# Altium integrated library interfaces.IntLib: 8 symbols
Pins are listed as number, name and electrical type; pins without a type are passive.

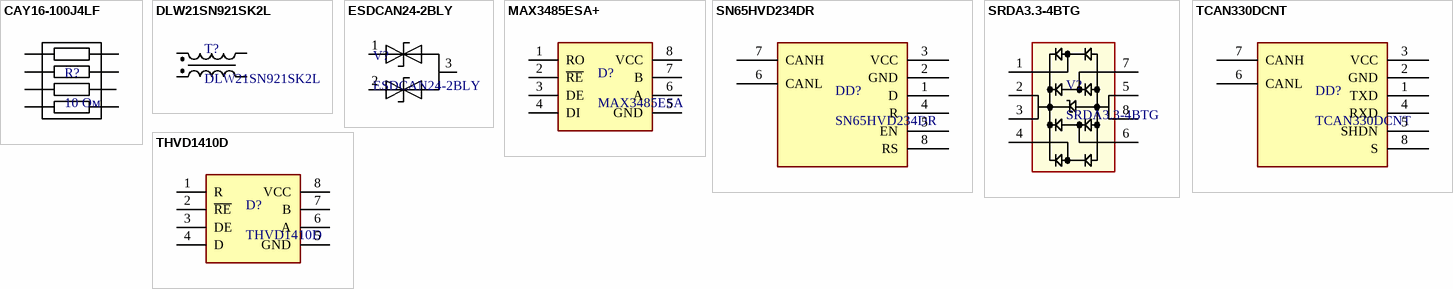
[diagram p0: symbols CAY16-100J4LF to THVD1410D]

## CAY16-100J4LF
designator R?, comment 10 Ом
Res Thick Film Array 10 Ohm 5% 0.25W(1/4W) ±200ppm/C ISOL 8-Pin 1206(4 X 0603) Convex SMD T/R; Manufacturer: Bourns; Manufacturer Part Number: CAY16-100J4LF; Supplier 1: https://www.chipdip.ru/product0/8030499465; Supplier Part Number: 2476971; RoHS: Yes; Category: Resistor Arrays; Stock: 8740; Pricing: 20=0,031, 100=0,025, 400=0,022, 1000=0,018, 2000=0,013 (GBP); ComponentLink1URL: https://datasheet.ciiva.com/11807/0900766b8064e462-11807072.pdf?src-supplier=Rs; ComponentLink1Description: https://datasheet.ciiva.com/11807/0900766b8064e462-11807072.pdf?src-supplier=Rs; ComponentLink2URL: https://datasheet.ciiva.com/30020/catcay-30020699.pdf?src-supplier=Avnet; ComponentLink2Description: https://datasheet.ciiva.com/30020/catcay-30020699.pdf?src-supplier=Avnet; ComponentLink3URL: https://datasheet.ciiva.com/1478/1849489-1478835.pdf?src-supplier=Element14; ComponentLink3Description: https://datasheet.ciiva.com/1478/1849489-1478835.pdf?src-supplier=Element14; ComponentLink4URL: https://datasheet.ciiva.com/18441/70155479-18441845.pdf?src-supplier=Allied+Electronics; ComponentLink4Description: https://datasheet.ciiva.com/18441/70155479-18441845.pdf?src-supplier=Allied+Electronics; ComponentLink5URL: https://datasheet.ciiva.com/30226/catcay-30226603.pdf?src-supplier=Onlinecomponents.com; ComponentLink5Description: https://datasheet.ciiva.com/30226/catcay-30226603.pdf?src-supplier=Onlinecomponents.com; ComponentLink6URL: https://datasheet.ciiva.com/1478/1849489-1478836.pdf?src-supplier=Element14; ComponentLink6Description: https://datasheet.ciiva.com/1478/1849489-1478836.pdf?src-supplier=Element14
footprint CAY16-100J4LF
pins: 1, 2, 3, 4, 5, 6, 7, 8

## DLW21SN921SK2L
designator T?
Ind Common Mode Choke Shielded Wirewound 920 Ohm 25% 100MHz 160mA 0805 Emboss T/R; Manufacturer: Murata; Impedance: 920R; Number of Lines: 2; Voltage Rating (DC): 50V; Supplier 1: https://www.chipdip.ru/product0/8004176754; Manufacturer Part Number: DLW21SN921SK2L; RoHS: Yes; Category: Common Mode Chokes; Stock 1: 6756; Pricing 1: 1=0,49, 10=0,358, 50=0,358, 100=0,258, 1000=0,22, 10000=0,186 (USD); Mount: Surface Mount; Min Operating Temperature: -40°C; Max Operating Temperature: 85°C; Packaging: Cut Tape; Max Current Rating: 160mA; Series: DLW21; Length: 2mm; Width: 1.2mm; RoHS Compliant: Yes; ComponentLink1URL: https://datasheet.octopart.com/DLW21SN921SK2L-Murata-datasheet-141273720.pdf?src-supplier=Element14; ComponentLink1Description: https://datasheet.octopart.com/DLW21SN921SK2L-Murata-datasheet-141273720.pdf?src-supplier=Element14; ComponentLink2URL: https://www.murata.com/en-us/products/productdata/8796756803614/EFLC0015.pdf?src-supplier=Digikey; ComponentLink2Description: https://www.murata.com/en-us/products/productdata/8796756803614/EFLC0015.pdf?src-supplier=Digikey; ComponentLink3URL: https://datasheet.octopart.com/DLW21SN921SK2L-Murata-datasheet-138902087.pdf?src-supplier=Future+Electronics; ComponentLink3Description: https://datasheet.octopart.com/DLW21SN921SK2L-Murata-datasheet-138902087.pdf?src-supplier=Future+Electronics; Supplier Part Number 1: 81-DLW21SN921SK2L
footprint DLW21S
pins: 1, 2, 3, 4

## ESDCAN24-2BLY
designator V?
TVS DIODE 24VWM 40VC SOT23-3L / ESD Suppressor Diode TVS Bi-Dir 24V Automotive 3-Pin SOT-23 T/R; Manufacturer: STMicroelectronics; Supplier 1: https://www.chipdip.ru/product/esdcan24-2bly-umw?from=suggest_product; Manufacturer Part Number: ESDCAN24-2BLY; RoHS: Yes; Category: TVS Diodes; Stock 1: 135000; Pricing 1: 3000=0,102, 6000=0,0993, 9000=0,064, 12000=0,0968, 15000=0,096, 30000=0,0613, 45000=0,0912, 60000=0,059 (USD); ComponentLink1URL: https://datasheet.ciiva.com/26935/getdatasheetpartid-779627-26935935.pdf?src-supplier=Verical; ComponentLink1Description: https://datasheet.ciiva.com/26935/getdatasheetpartid-779627-26935935.pdf?src-supplier=Verical; ComponentLink2URL: https://datasheet.ciiva.com/12070/dm00037599-100424-12070821.pdf?src-supplier=Mouser; ComponentLink2Description: https://datasheet.ciiva.com/12070/dm00037599-100424-12070821.pdf?src-supplier=Mouser; ComponentLink3URL: https://datasheet.ciiva.com/23803/dm00037599-23803632.pdf?src-supplier=Newark; ComponentLink3Description: https://datasheet.ciiva.com/23803/dm00037599-23803632.pdf?src-supplier=Newark; ComponentLink4URL: https://datasheet.ciiva.com/22685/1786030-22685811.pdf?src-supplier=Element14; ComponentLink4Description: https://datasheet.ciiva.com/22685/1786030-22685811.pdf?src-supplier=Element14; ComponentLink5URL: https://datasheet.ciiva.com/6574/dm00037599-6574397.pdf?src-supplier=Digikey; ComponentLink5Description: https://datasheet.ciiva.com/6574/dm00037599-6574397.pdf?src-supplier=Digikey; ComponentLink6URL: https://datasheet.ciiva.com/6574/dm00037599-6574398.pdf?src-supplier=Digikey; ComponentLink6Description: https://datasheet.ciiva.com/6574/dm00037599-6574398.pdf?src-supplier=Digikey; ComponentLink7URL: https://datasheet.ciiva.com/41443/001183991-da-01-en-tvs-diode-24-esdcan24-2bly-sot-23-3l-stm-41443402.pdf?src-supplier=Conrad; ComponentLink7Description: https://datasheet.ciiva.com/41443/001183991-da-01-en-tvs-diode-24-esdcan24-2bly-sot-23-3l-stm-41443402.pdf?src-supplier=Conrad; Supplier Part Number 1: 1027027
footprint SOT23-3L
pins: 1, 2, 3

## MAX3485ESA+
designator D?, comment MAX3485ESA
Single Transmitter/Receiver RS-422/RS-485 8-Pin SOIC N; Manufacturer: Maxim; Manufacturer Part Number: MAX3485ESA+; Supplier 1: https://www.chipdip.ru/product/max3485eesa-t-maxim; Supplier Part Number: 2518818; RoHS: Yes; Category: RS-232 / RS-422 / RS-485 Interface ICs; Stock: 707; Pricing: 1=6,17, 10=5,32, 25=4,97, 100=4,61, 300=4,41, 500=4,01, 1000=3,52 (EUR); ComponentLink1URL: https://datasheet.ciiva.com/14424/max3483-max3491-14424938.pdf?src-supplier=Avnet; ComponentLink1Description: https://datasheet.ciiva.com/14424/max3483-max3491-14424938.pdf?src-supplier=Avnet; ComponentLink2URL: https://datasheet.ciiva.com/1714/max3483-max3491-1714122.pdf?src-supplier=Digikey; ComponentLink2Description: https://datasheet.ciiva.com/1714/max3483-max3491-1714122.pdf?src-supplier=Digikey
footprint SOIC-8
pins: 1 RO, 2 ~{RE}, 3 DE, 4 DI, 5 GND, 6 A, 7 B, 8 VCC

## SN65HVD234DR
designator DD?
3.3 V CAN Transceiver with Sleep Mode 8-SOIC -40 to 125; Manufacturer: Texas Instruments; Manufacturer Lifecycle Status: ACTIVE; Data Rate: 1Mbps; Max Supply Voltage: 3.6V; Min Supply Voltage: 3V; Nominal Supply Current: 6mA; Number of Channels: 1; Operating Supply Voltage: 3.3V; Supplier: RS; Supplier Part Number: 2184572; Manufacturer Part Number: SN65HVD234DR; RoHS: Compliant; Category: CAN Transceivers; Stock: 1060; Pricing: 5=2,798, 25=2,658, 50=2,392, 125=2,152, 250=2,046 (GBP); Case/Package: SOIC; Height: 1.75mm; Lead Free: Lead Free; Length: 4.9mm; Lifecycle Status: Production; Max Operating Temperature: 125°C; Min Operating Temperature: -40°C; Number of Drivers: 1; Pins: 8; Number of Receive Buffers: 1; Number of Receivers: 1; Number of Transceivers: 1; Number of Transmit Buffers: 1; Packaging: Cut Tape; Radiation Hardening: No; REACH SVHC: No; Schedule B: 8542390000, 8542390000|8542390000|8542390000|8542390000|8542390000; Termination: SMD/SMT; Thickness: 1.58mm; Weight: 72.603129mg; Width: 3.91mm; ComponentLink1URL: https://octopart.com:443/opatz8j6/c1?t=2oQhaKo3D-ET1icK9MaNvu6jzRkCeN0X82L8NzkoYVuaVkJCpROK1FKsfH3XNe5QQu5l2Ua0YxmZgEWjBQoGM6L1wX1nDdFJl6koKo8_stjUcoy0oc_wFUrgikXTdVNJiKx8qwZSWhF9F0nsBT7X8_Y2ORVHhONVMUTV5iTfNUN4hx77IokU-I7lf_eQdH5jLSYtcgro_k7Pzi8FGXmtFBY_8ray8qAccUEhGM1LkYgGrt-agt7x4Erh-dBrwMG74uyJwSlGro7X0vsivsrmUzWqHQYmhYHcvpxd_ZrKh3y5oWlFjrjFSyA8-99AnQL9XQuXS4xQAOIGbxI5wOVeNN9_fQEhCo3eRIPdzPTi1gcLzIURcapbKTMuaXNHLIrf_OpIahw&src-supplier=Texas+Instruments; ComponentLink1Description: https://octopart.com:443/opatz8j6/c1?t=2oQhaKo3D-ET1icK9MaNvu6jzRkCeN0X82L8NzkoYVuaVkJCpROK1FKsfH3XNe5QQu5l2Ua0YxmZgEWjBQoGM6L1wX1nDdFJl6koKo8_stjUcoy0oc_wFUrgikXTdVNJiKx8qwZSWhF9F0nsBT7X8_Y2ORVHhONVMUTV5iTfNUN4hx77IokU-I7lf_eQdH5jLSYtcgro_k7Pzi8FGXmtFBY_8ray8qAccUEhGM1LkYgGrt-agt7x4Erh-dBrwMG74uyJwSlGro7X0vsivsrmUzWqHQYmhYHcvpxd_ZrKh3y5oWlFjrjFSyA8-99AnQL9XQuXS4xQAOIGbxI5wOVeNN9_fQEhCo3eRIPdzPTi1gcLzIURcapbKTMuaXNHLIrf_OpIahw&src-supplier=Texas+Instruments; ComponentLink2URL: https://datasheet.octopart.com:443/SN65HVD234DR-Texas-Instruments-datasheet-10254045.pdf?src-supplier=Texas+Instruments; ComponentLink2Description: https://datasheet.octopart.com:443/SN65HVD234DR-Texas-Instruments-datasheet-10254045.pdf?src-supplier=Texas+Instruments; ComponentLink3URL: https://sigma.octopart.com:443/49249642/technical_drawing/Texas-Instruments-SN65HVD234DR.pdf?src-supplier=Texas+Instruments; ComponentLink3Description: https://sigma.octopart.com:443/49249642/technical_drawing/Texas-Instruments-SN65HVD234DR.pdf?src-supplier=Texas+Instruments; ComponentLink4URL: https://datasheet.octopart.com:443/SN65HVD234DR-Texas-Instruments-datasheet-48117856.pdf?src-supplier=element14+APAC; ComponentLink4Description: https://datasheet.octopart.com:443/SN65HVD234DR-Texas-Instruments-datasheet-48117856.pdf?src-supplier=element14+APAC; ComponentLink5URL: https://datasheet.octopart.com:443/SN65HVD234DR-Texas-Instruments-datasheet-37140774.pdf?src-supplier=Newark; ComponentLink5Description: https://datasheet.octopart.com:443/SN65HVD234DR-Texas-Instruments-datasheet-37140774.pdf?src-supplier=Newark; ComponentLink6URL: https://datasheet.octopart.com:443/SN65HVD234DR-Texas-Instruments-datasheet-33010706.pdf?src-supplier=Newark; ComponentLink6Description: https://datasheet.octopart.com:443/SN65HVD234DR-Texas-Instruments-datasheet-33010706.pdf?src-supplier=Newark; ComponentLink7URL: https://datasheet.octopart.com:443/SN65HVD234DR-Texas-Instruments-datasheet-148819.pdf?src-supplier=Mouser; ComponentLink7Description: https://datasheet.octopart.com:443/SN65HVD234DR-Texas-Instruments-datasheet-148819.pdf?src-supplier=Mouser; ComponentLink8URL: https://datasheet.octopart.com:443/SN65HVD234DR-Texas-Instruments-datasheet-62292545.pdf?src-supplier=Farnell; ComponentLink8Description: https://datasheet.octopart.com:443/SN65HVD234DR-Texas-Instruments-datasheet-62292545.pdf?src-supplier=Farnell; ComponentLink9URL: https://datasheet.octopart.com:443/SN65HVD234DR-Texas-Instruments-datasheet-17022123.pdf?src-supplier=Farnell; ComponentLink9Description: https://datasheet.octopart.com:443/SN65HVD234DR-Texas-Instruments-datasheet-17022123.pdf?src-supplier=Farnell; ComponentLink10URL: https://datasheet.octopart.com:443/SN65HVD234DR-Texas-Instruments-datasheet-23769916.pdf?src-supplier=Farnell; ComponentLink10Description: https://datasheet.octopart.com:443/SN65HVD234DR-Texas-Instruments-datasheet-23769916.pdf?src-supplier=Farnell; ComponentLink11URL: https://datasheet.octopart.com:443/SN65HVD234DR-Texas-Instruments-datasheet-164416270.pdf?src-supplier=SHENGYU+ELECTRONICS; ComponentLink11Description: https://datasheet.octopart.com:443/SN65HVD234DR-Texas-Instruments-datasheet-164416270.pdf?src-supplier=SHENGYU+ELECTRONICS; ComponentLink12URL: https://datasheet.octopart.com:443/SN65HVD234DR-Texas-Instruments-datasheet-159115713.pdf?src-supplier=LCSC; ComponentLink12Description: https://datasheet.octopart.com:443/SN65HVD234DR-Texas-Instruments-datasheet-159115713.pdf?src-supplier=LCSC; ComponentLink13URL: https://datasheet.octopart.com:443/SN65HVD234DR-Texas-Instruments-datasheet-137316104.pdf?src-supplier=Future+Electronics; ComponentLink13Description: https://datasheet.octopart.com:443/SN65HVD234DR-Texas-Instruments-datasheet-137316104.pdf?src-supplier=Future+Electronics; ComponentLink14URL: https://datasheet.octopart.com:443/SN65HVD234DR-Texas-Instruments-datasheet-14121730.pdf?src-supplier=iiiC; ComponentLink14Description: https://datasheet.octopart.com:443/SN65HVD234DR-Texas-Instruments-datasheet-14121730.pdf?src-supplier=iiiC; ComponentLink15URL: http://sigma.octopart.com:80/reach_statement/Texas-Instruments-company-64.pdf?src-supplier=Compliance+Statements; ComponentLink15Description: http://sigma.octopart.com:80/reach_statement/Texas-Instruments-company-64.pdf?src-supplier=Compliance+Statements; ComponentLink16URL: http://sigma.octopart.com:80/conflict_mineral_statement/Texas-Instruments-company-63.pdf?src-supplier=Compliance+Statements; ComponentLink16Description: http://sigma.octopart.com:80/conflict_mineral_statement/Texas-Instruments-company-63.pdf?src-supplier=Compliance+Statements; Supplier 1: https://www.chipdip.ru/product/sn65hvd234dr-interfeys-can-3.3v-txrx-texas-instruments-9000120420
footprint SOIC-8
pins: 1 D, 2 GND, 3 VCC, 4 R, 5 EN, 6 CANL, 7 CANH, 8 RS

## SRDA3.3-4BTG
designator V?
ESD Suppressor Diode Diode Array Uni-Dir 3.3V 8-Pin SOIC T/R; Manufacturer: Littelfuse; Supplier 1: https://www.chipdip.ru/product0/8001933393; Supplier Part Number: SRDA3.3-4BTG; Manufacturer Part Number: SRDA3.3-4BTG; RoHS: Yes; Category: TVS Diodes; Stock: 1251; Pricing: 1=0,8928, 10=0,7436, 25=0,7361, 100=0,5993, 250=0,5888, 500=0,5172, 1000=0,3905 (USD); ComponentLink1URL: https://datasheet.ciiva.com/24009/littelfuse-tvs-diode-array-srda3-3-254516-24009833.pdf?src-supplier=Mouser; ComponentLink1Description: https://datasheet.ciiva.com/24009/littelfuse-tvs-diode-array-srda3-3-254516-24009833.pdf?src-supplier=Mouser; ComponentLink2URL: https://datasheet.ciiva.com/23820/littelfuse-tvs-diode-array-srda3-3-23820480.pdf?src-supplier=Newark; ComponentLink2Description: https://datasheet.ciiva.com/23820/littelfuse-tvs-diode-array-srda3-3-23820480.pdf?src-supplier=Newark; ComponentLink3URL: https://datasheet.ciiva.com/29574/littelfuse-tvs-diode-array-srda3-3-datasheet-pdf-29574085.pdf?src-supplier=Digikey; ComponentLink3Description: https://datasheet.ciiva.com/29574/littelfuse-tvs-diode-array-srda3-3-datasheet-pdf-29574085.pdf?src-supplier=Digikey
footprint SOIC-8
pins: 1 "I/O 1", 2 "Ref 1", 3 "Ref 1", 4 "I/O 2", 5 "Ref 2", 6 "I/O 3", 7 "I/O 4", 8 "Ref 2"

## TCAN330DCNT
designator DD?
EAR99 TCAN330 Tape & Reel (TR) CANbus interface transceiver 3.3V 1.45mm 1Mbps -40C~125C; Manufacturer: Texas Instruments; Supplier 1: https://www.chipdip.ru/product0/8005011845; Manufacturer Part Number: TCAN330DCNT; RoHS: Yes; Category: Interface ICs; Stock 1: 49; Pricing 1: 1=2,386, 10=1,915, 25=1,65 (USD); Length: 2.9mm; Width: 1.63mm; Height: 1.45mm; Thickness: 1.1mm; ComponentLink1URL: http://www.ti.com/lit/ds/symlink/tcan330.pdf?src-supplier=Digikey; ComponentLink1Description: http://www.ti.com/lit/ds/symlink/tcan330.pdf?src-supplier=Digikey; ComponentLink2URL: http://www.ti.com/general/docs/suppproductinfo.tsp?distId=10&amp;gotoUrl=http%3A%2F%2Fwww.ti.com%2Flit%2Fgpn%2Ftcan330&src-supplier=Digikey; ComponentLink2Description: http://www.ti.com/general/docs/suppproductinfo.tsp?distId=10&amp;gotoUrl=http%3A%2F%2Fwww.ti.com%2Flit%2Fgpn%2Ftcan330&src-supplier=Digikey; ComponentLink3URL: http://www.ti.com/general/docs/lit/getliterature.tsp?genericPartNumber=TCAN330&amp;&amp;fileType=pdf&src-supplier=Farnell; ComponentLink3Description: http://www.ti.com/general/docs/lit/getliterature.tsp?genericPartNumber=TCAN330&amp;&amp;fileType=pdf&src-supplier=Farnell; ComponentLink4URL: http://www.ti.com/general/docs/lit/getliterature.tsp?genericPartNumber=TCAN330&&fileType=pdf&src-supplier=Element14; ComponentLink4Description: http://www.ti.com/general/docs/lit/getliterature.tsp?genericPartNumber=TCAN330&&fileType=pdf&src-supplier=Element14; Supplier Part Number 1: TCAN330DCNT
footprint SOT-23-8
pins: 1 TXD, 2 GND, 3 VCC, 4 RXD, 5 SHDN, 6 CANL, 7 CANH, 8 S

## THVD1410D
designator D?
ИС интерфейса RS-422/RS-485 3.3-V to 5-V RS-485 transceiver with +/-18-kV IEC ESD protection 8-SOIC -40 to 125; Supplier 1: https://www.chipdip.ru/product/thvd1410d-texas-instruments-8003332815
footprint SOIC-8
pins: 1 R, 2 ~{RE}, 3 DE, 4 D, 5 GND, 6 A, 7 B, 8 VCC